# EAGLE library part ADV7123 (library Custom)
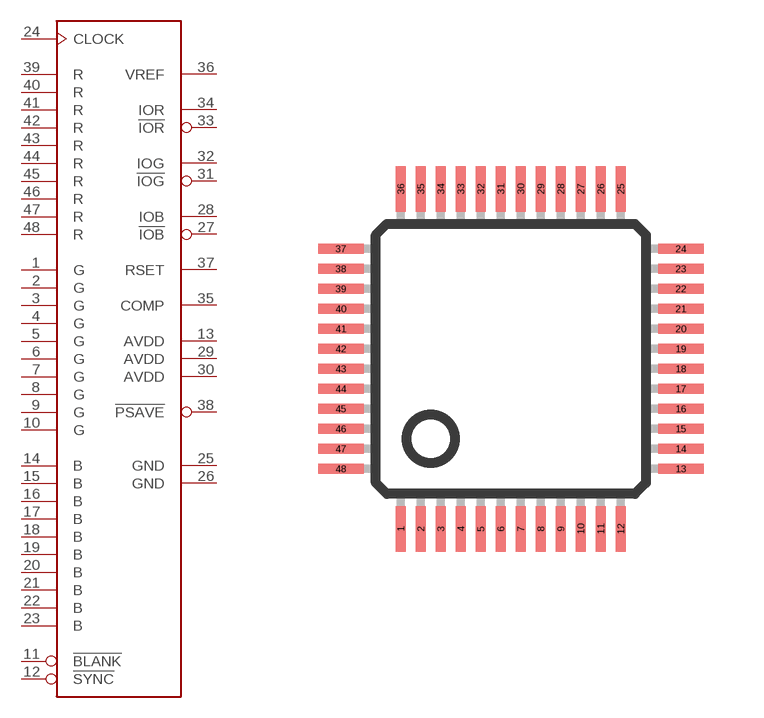
[diagram p13: symbol with the pads of LQFP-48; footprint LQFP-48]

Designator prefix -

## ADV7123LQFP-48  [LQFP-48]
1  G  in
2  G  in
3  G  in
4  G  in
5  G  in
6  G  in
7  G  in
8  G  in
9  G  in
10  G  in
11  !BLANK  in
12  !SYNC  in
13  AVDD  pwr
14  B  in
15  B  in
16  B  in
17  B  in
18  B  in
19  B  in
20  B  in
21  B  in
22  B  in
23  B  in
24  CLOCK  in
25  GND  pwr
26  GND  pwr
27  !IOB  out
28  IOB
29  AVDD  pwr
30  AVDD  pwr
31  !IOG  out
32  IOG
33  !IOR  out
34  IOR
35  COMP
36  VREF  pwr
37  RSET
38  !PSAVE
39  R  in
40  R  in
41  R  in
42  R  in
43  R  in
44  R  in
45  R  in
46  R  in
47  R  in
48  R  in

## Footprint LQFP-48 (pad centres in mm)
smd 0.254 x 1.143: 1 -2.75,-4.25; 2 -2.25,-4.25; 3 -1.75,-4.25; 4 -1.25,-4.25; 5 -0.75,-4.25; 6 -0.25,-4.25; 7 0.25,-4.25; 8 0.75,-4.25; 9 1.25,-4.25; 10 1.75,-4.25; 11 2.25,-4.25; 12 2.75,-4.25; 25 2.75,4.25; 26 2.25,4.25; 27 1.75,4.25; 28 1.25,4.25; 29 0.75,4.25; 30 0.25,4.25; 31 -0.25,4.25; 32 -0.75,4.25; 33 -1.25,4.25; 34 -1.75,4.25; 35 -2.25,4.25; 36 -2.75,4.25
smd 1.143 x 0.254: 13 4.25,-2.75; 14 4.25,-2.25; 15 4.25,-1.75; 16 4.25,-1.25; 17 4.25,-0.75; 18 4.25,-0.25; 19 4.25,0.25; 20 4.25,0.75; 21 4.25,1.25; 22 4.25,1.75; 23 4.25,2.25; 24 4.25,2.75; 37 -4.25,2.75; 38 -4.25,2.25; 39 -4.25,1.75; 40 -4.25,1.25; 41 -4.25,0.75; 42 -4.25,0.25; 43 -4.25,-0.25; 44 -4.25,-0.75; 45 -4.25,-1.25; 46 -4.25,-1.75; 47 -4.25,-2.25; 48 -4.25,-2.75